# Altium schematic symbol library SCH - MCU - NUVOTON - NUVOTON NANO100LD3AN.SchLib: 1 symbol
Pins are listed as number, name and electrical type; pins without a type are passive.

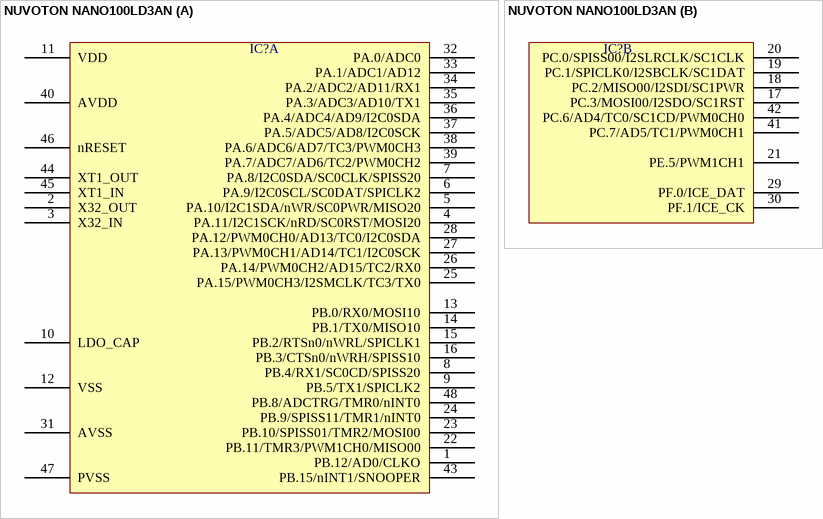
[diagram p0: symbol NUVOTON NANO100LD3AN]

## NUVOTON NANO100LD3AN
designator IC?  (value not drawn)
part A pins: 1 PB.12/AD0/CLKO, 2 X32_OUT, 3 X32_IN, 4 PA.11/I2C1SCK/nRD/SC0RST/MOSI20, 5 PA.10/I2C1SDA/nWR/SC0PWR/MISO20, 6 PA.9/I2C0SCL/SC0DAT/SPICLK2, 7 PA.8/I2C0SDA/SC0CLK/SPISS20, 8 PB.4/RX1/SC0CD/SPISS20, 9 PB.5/TX1/SPICLK2, 10 LDO_CAP, 11 VDD, 12 VSS, 13 PB.0/RX0/MOSI10, 14 PB.1/TX0/MISO10, 15 PB.2/RTSn0/nWRL/SPICLK1, 16 PB.3/CTSn0/nWRH/SPISS10, 22 PB.11/TMR3/PWM1CH0/MISO00, 23 PB.10/SPISS01/TMR2/MOSI00, 24 PB.9/SPISS11/TMR1/nINT0, 25 PA.15/PWM0CH3/I2SMCLK/TC3/TX0, 26 PA.14/PWM0CH2/AD15/TC2/RX0, 27 PA.13/PWM0CH1/AD14/TC1/I2C0SCK, 28 PA.12/PWM0CH0/AD13/TC0/I2C0SDA, 31 AVSS, 32 PA.0/ADC0, 33 PA.1/ADC1/AD12, 34 PA.2/ADC2/AD11/RX1, 35 PA.3/ADC3/AD10/TX1, 36 PA.4/ADC4/AD9/I2C0SDA, 37 PA.5/ADC5/AD8/I2C0SCK, 38 PA.6/ADC6/AD7/TC3/PWM0CH3, 39 PA.7/ADC7/AD6/TC2/PWM0CH2, 40 AVDD, 43 PB.15/nINT1/SNOOPER, 44 XT1_OUT, 45 XT1_IN, 46 nRESET, 47 PVSS, 48 PB.8/ADCTRG/TMR0/nINT0
part B pins: 17 PC.3/MOSI00/I2SDO/SC1RST, 18 PC.2/MISO00/I2SDI/SC1PWR, 19 PC.1/SPICLK0/I2SBCLK/SC1DAT, 20 PC.0/SPISS00/I2SLRCLK/SC1CLK, 21 PE.5/PWM1CH1, 29 PF.0/ICE_DAT, 30 PF.1/ICE_CK, 41 PC.7/AD5/TC1/PWM0CH1, 42 PC.6/AD4/TC0/SC1CD/PWM0CH0